# Altium schematic symbol library SW-PB-2.Schlib: 1 symbol
Pins are listed as number, name and electrical type; pins without a type are passive.

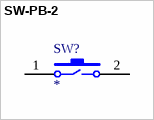
[diagram p0: symbol SW-PB-2]

## SW-PB-2
designator SW?
pins: 1, 2